# Altium footprint library My Library.PcbLib: 161 footprints (part 8 of 11)
Each footprint in its own frame and in the unit in brackets; x right, y up, seen from the top. Pads: shape width x height; smd on the part's side, far side on the other; paste and mask are expansions set on the pad; w line width, h text height; cw(c..) or ccw(c..) is an arc to the next point about the centre after c.
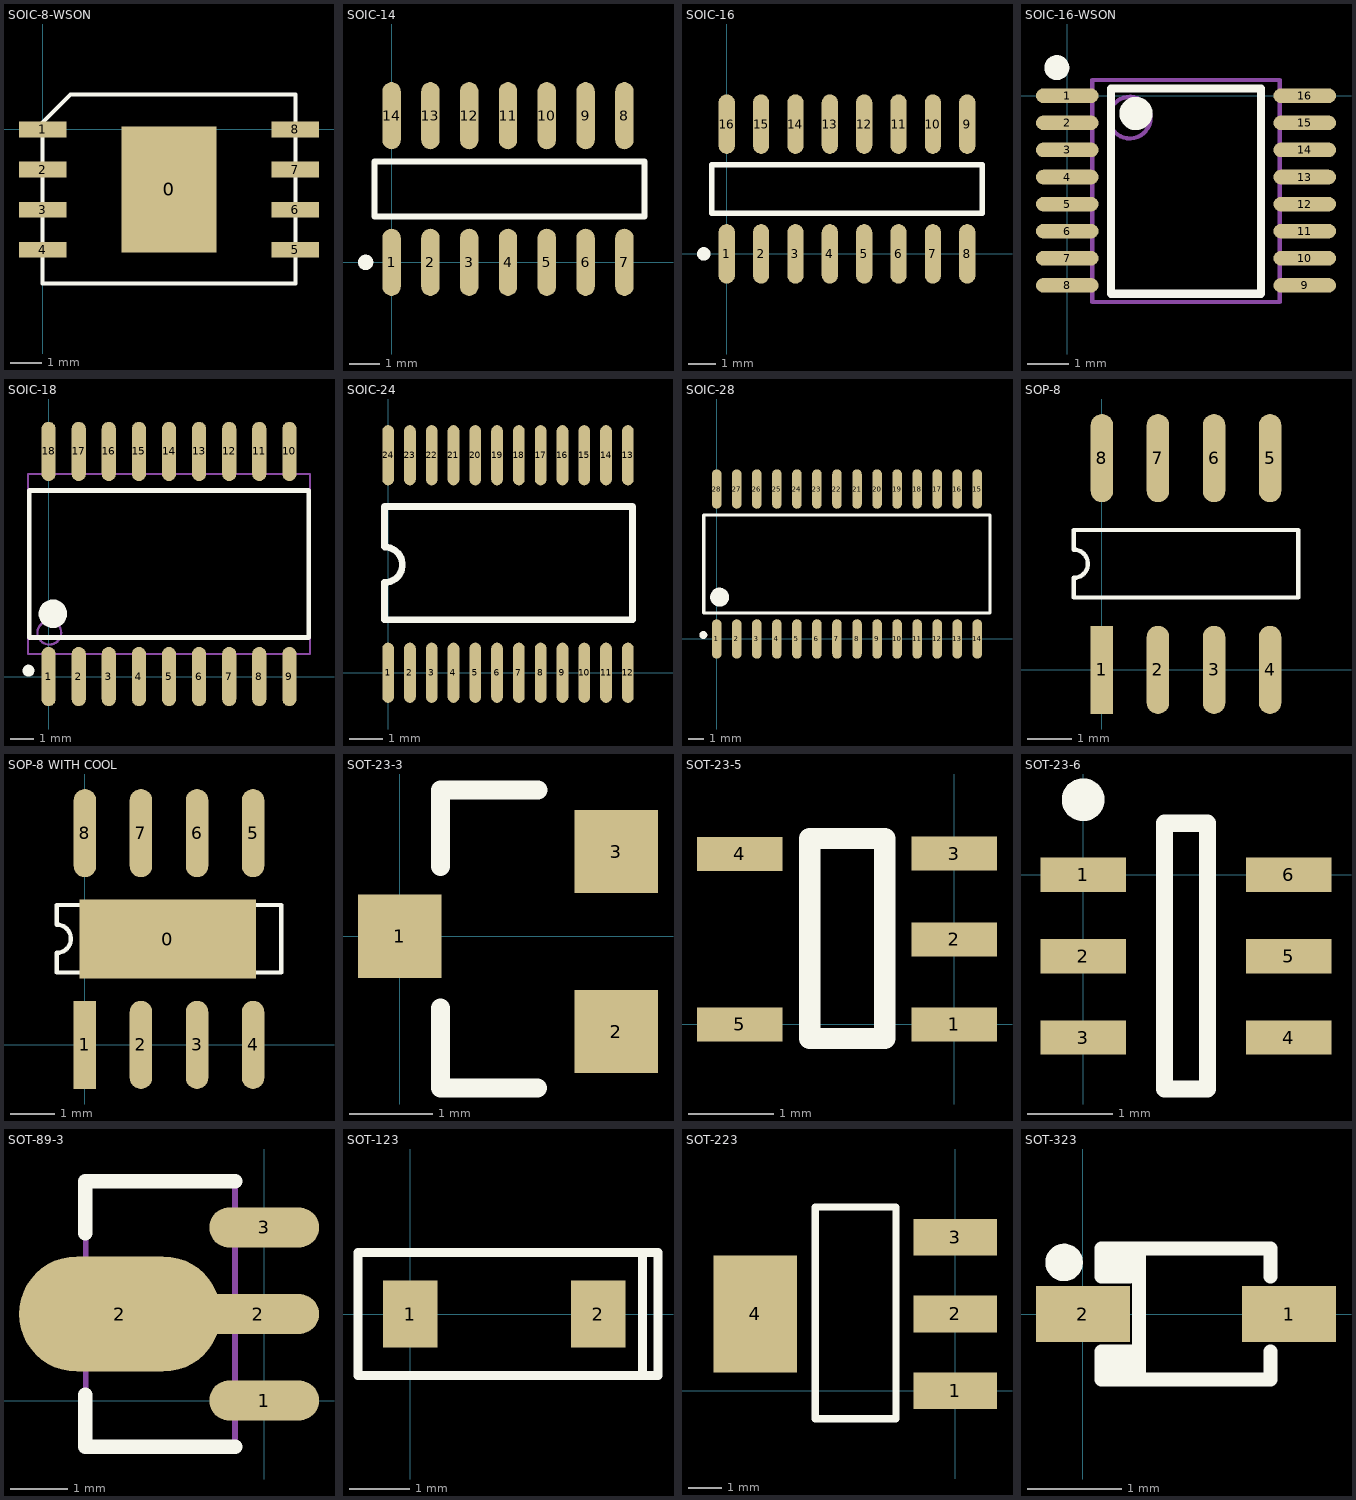
[diagram p7: the footprints below, top view; thin cyan lines are the x and y axes]

## SOIC-8-WSON [mm]
height 1
pads (9):
  rect 3x4 smd: 0(4,-1.9)
  rect 1.5x0.5 smd: 1(0,0) 2(0,-1.27) 3(0,-2.54) 4(0,-3.81) 5(8,-3.81) 6(8,-2.54) 7(8,-1.27) 8(8,0)
Top Overlay:
  lines w0.127: 0,0.225 0,-4.885 8,-4.885 8,1.115 0.89,1.115 ; 0.025,0.25 0.875,1.1

## SOIC-14 [mm]
height 1
pads (14):
  oval 0.6x2.2 smd: 1(0,0) 2(1.27,0) 3(2.54,0) 4(3.81,0) 5(5.08,0) 6(6.35,0) 7(7.62,0) 8(7.62,4.8) 9(6.35,4.8) 10(5.08,4.8) 11(3.81,4.8) 12(2.54,4.8) 13(1.27,4.8) 14(0,4.8)
Top Overlay:
  circle w0.25: c-0.85,0 r0.125
  lines w0.2: -0.555,1.5 -0.555,3.3 8.275,3.3 8.275,1.5 -0.555,1.5
3D body: height 1, standoff 0, extent -0.55,0.825 8.275,3.975

## SOIC-16 [mm]
height 1
pads (16):
  oval 0.6x2.2 smd: 1(0,0) 2(1.27,0) 3(2.54,0) 4(3.81,0) 5(5.08,0) 6(6.35,0) 7(7.62,0) 8(8.89,0) 9(8.89,4.8) 10(7.62,4.8) 11(6.35,4.8) 12(5.08,4.8) 13(3.81,4.8) 14(2.54,4.8) 15(1.27,4.8) 16(0,4.8)
Top Overlay:
  circle w0.25: c-0.85,0 r0.125
  lines w0.2: -0.555,1.5 -0.555,3.3 9.445,3.3 9.445,1.5 -0.555,1.5
3D body: height 1.75, standoff 0, extent -0.505,0.45 9.395,4.35

## SOIC-16-WSON [mm]
height 1
pads (16):
  oval 1.5x0.35 smd: 1(0,0) 2(0,-0.65) 3(0,-1.3) 4(0,-1.95) 5(0,-2.6) 6(0,-3.25) 7(0,-3.9) 8(0,-4.55) 9(5.7,-4.55) 10(5.7,-3.9) 11(5.7,-3.25) 12(5.7,-2.6) 13(5.7,-1.95) 14(5.7,-1.3) 15(5.7,-0.65) 16(5.7,0)
Top Overlay:
  circle w0.4: c1.65,-0.425 r0.2
  circle w0.3: c-0.25,0.675 r0.15
  lines w0.2: 1.05,-4.75 4.65,-4.75 4.65,0.175 1.05,0.175 1.05,-4.75
Mechanical 13:
  circle w0.1: c1.5,-0.525 r0.5
  lines w0.1: 0.6,-4.95 5.1,-4.95 5.1,0.375 0.6,0.375 0.6,-4.95
3D body: height 1, standoff 0, extent 0.55,-4.95 5.15,0.375

## SOIC-18 [mm]
height 1
pads (18):
  oval 0.6x2.5 smd: 1(0,0) 2(1.27,0) 3(2.54,0) 4(3.81,0) 5(5.08,0) 6(6.35,0) 7(7.62,0) 8(8.89,0) 9(10.16,0) 10(10.16,9.5) 11(8.89,9.5) 12(7.62,9.5) 13(6.35,9.5) 14(5.08,9.5) 15(3.81,9.5) 16(2.54,9.5) 17(1.27,9.5) 18(0,9.5)
Top Overlay:
  circle w0.6: c0.18,2.65 r0.3
  circle w0.25: c-0.85,0.25 r0.125
  lines w0.2: -0.82,1.65 -0.82,7.85 10.98,7.85 10.98,1.65 -0.82,1.65
Mechanical 13:
  circle w0.1: c0.03,1.85 r0.5
  lines w0.1: -0.87,0.95 -0.87,8.55 11.03,8.55 11.03,0.95 -0.87,0.95
3D body: height 2.65, standoff 0, extent -0.87,0.95 11.03,8.55

## SOIC-24 [mm]
pads (24):
  oval 0.35x1.8 smd: 1(0,0) 2(0.651,0) 3(1.302,0) 4(1.953,0) 5(2.604,0) 6(3.255,0) 7(3.906,0) 8(4.557,0) 9(5.208,0) 10(5.859,0) 11(6.51,0) 12(7.162,0) 13(7.162,6.497) 14(6.51,6.497) 15(5.859,6.497) 16(5.208,6.497) 17(4.557,6.497) 18(3.906,6.497) 19(3.255,6.497) 20(2.604,6.497) 21(1.953,6.497) 22(1.302,6.497) 23(0.651,6.497) 24(0,6.497)
Top Overlay:
  lines w0.2: -0.109,2.703 -0.109,1.581 7.301,1.581 7.301,4.967 -0.109,4.967 -0.109,3.766 ; -0.1,2.697 ccw(c-0.1,3.225) -0.1,3.753
3D body: height 1, standoff 0, extent -0.175,0.5 7.325,5.975

## SOIC-28 [mm]
height 2
pads (28):
  oval 0.6x2.5 smd: 1(0,0) 2(1.27,0) 3(2.54,0) 4(3.81,0) 5(5.08,0) 6(6.35,0) 7(7.62,0) 8(8.89,0) 9(10.16,0) 10(11.43,0) 11(12.7,0) 12(13.97,0) 13(15.24,0) 14(16.51,0) 15(16.51,9.5) 16(15.24,9.5) 17(13.97,9.5) 18(12.7,9.5) 19(11.43,9.5) 20(10.16,9.5) 21(8.89,9.5) 22(7.62,9.5) 23(6.35,9.5) 24(5.08,9.5) 25(3.81,9.5) 26(2.54,9.5) 27(1.27,9.5) 28(0,9.5)
Top Overlay:
  circle w0.25: c-0.85,0.25 r0.125
  circle w0.6: c0.18,2.65 r0.3
  lines w0.2: -0.82,1.65 17.325,1.65 17.325,7.85 -0.82,7.85 -0.82,1.65
3D body: height 3, standoff 0, extent -0.825,0 17.325,9.525

## SOP-8 [mm]
height 1
pads (8):
  rect 0.51x2 smd: 1(0,0)
  oval 0.51x2 smd: 2(1.27,0) 3(2.54,0) 4(3.81,0) 5(3.81,4.8) 6(2.54,4.8) 7(1.27,4.8) 8(0,4.8)
Top Overlay:
  lines w0.1: -0.635,1.64 -0.635,2.088 ccw(c-0.635,2.405) -0.635,2.723 -0.635,3.17 4.445,3.17 4.445,1.64 -0.635,1.64
3D body: height 1.5, standoff 0, extent -0.625,0.675 4.475,4.125

## SOP-8 WITH COOL [mm]
height 2
pads (9):
  rect 4x1.8 smd: 0(1.875,2.4)
  rect 0.51x2 smd: 1(0,0)
  oval 0.51x2 smd: 2(1.27,0) 3(2.54,0) 4(3.81,0) 5(3.81,4.8) 6(2.54,4.8) 7(1.27,4.8) 8(0,4.8)
Top Overlay:
  lines w0.1: -0.635,1.64 -0.635,2.088 ccw(c-0.635,2.405) -0.635,2.723 -0.635,3.17 4.445,3.17 4.445,1.64 -0.635,1.64
3D body: height 1.5, standoff 0, extent -0.625,0.675 4.475,4.125

## SOT-23-3 [mm]
height 1
pads (3):
  rect 1x1 smd: 1(0,0) 2(2.598,-1.143) 3(2.598,1.016)
Top Overlay:
  lines w0.229: 0.49,-0.864 0.49,-1.818 1.653,-1.818 ; 0.49,0.838 0.49,1.753 1.659,1.753
3D body: height 1, standoff 0, extent 0.475,-1.8 2.075,1.75

## SOT-23-5 [mm]
height 1.5
pads (5):
  rect 1x0.4 smd: 1(0,0) 2(-0.002,0.996) 3(0,2) 4(-2.512,1.996) 5(-2.51,0)
Top Overlay:
  lines w0.25: -1.692,-0.164 -0.812,-0.164 -0.812,2.176 -1.692,2.176 -1.692,-0.164
3D body: height 1, standoff 0, extent -2.025,-0.25 -0.5,2.25

## SOT-23-6 [mm]
height 1
pads (6):
  rect 1x0.4 smd: 1(0,0) 2(0,-0.95) 3(0,-1.9) 4(2.4,-1.9) 5(2.4,-0.95) 6(2.4,0)
Top Overlay:
  circle w0.25: c0,0.875 r0.125
  lines w0.2: 0.95,-2.5 0.95,0.6 1.45,0.6 1.45,-2.5 0.95,-2.5

## SOT-89-3 [mm]
height 2
pads (4):
  oval 1.9x0.7 smd: 1(0,0) 3(0,3)
  oval 3.5x2 smd: 2(-2.5,1.5)
  oval 2.1x0.7 smd: 2(-0.1,1.5)
Top Overlay:
  lines w0.254: -3.1,0.1 -3.1,-0.8 -0.5,-0.8 ; -3.1,2.9 -3.1,3.8 -0.5,3.8
Mechanical 13:
  lines w0.1: -3.095,-0.8 -3.095,3.8 -0.505,3.8 -0.505,-0.8 -3.095,-0.8
3D body: height 1.51, standoff 0, extent -3.75,-0.75 0.55,3.75

## SOT-123 [mm]
height 1
pads (2):
  rect 0.9x1.1 smd: 1(0,0) 2(3.102,0)
Top Overlay:
  lines w0.15: 3.837,-1.016 3.837,1.016 ; -0.862,-1.016 4.091,-1.016 4.091,1.016 -0.862,1.016 -0.862,-1.016

## SOT-223 [mm]
height 1.5
pads (4):
  rect 2.5x1.1 smd: 1(0,0) 2(0,2.3) 3(0,4.6)
  rect 2.5x3.5 smd: 4(-6,2.3)
Top Overlay:
  lines w0.22: -4.2,-0.84 -4.2,5.51 -1.78,5.51 -1.78,-0.84 -4.2,-0.84
3D body: height 1, standoff 0, extent -4.225,-0.8 -1.75,5.5

## SOT-323 [mm]
height 1
pads (2):
  rect 1x0.6 smd: 1(2.2,0) 2(0,0)
Top Overlay:
  circle w0.2: c-0.2,0.55 r0.1
  lines w0.15: 0.3,-0.6 0.3,-0.5 ; 0.3,0.5 0.3,0.7 ; 0.4,-0.6 0.4,-0.4 ; 0.4,0.4 0.4,0.6 ; 0.5,-0.6 0.5,-0.4 ; 0.5,0.4 0.2,0.4 0.2,0.7 2,0.7 2,0.4 ; 0.5,0.5 0.5,0.6 ; 0.6,-0.7 0.6,0.7 ; 0.6,-0.4 0.4,-0.4 ; 2,-0.4 2,-0.7 0.2,-0.7 0.2,-0.4 0.4,-0.4